# Altium footprint library Male_Header_2x3_2.55mm.PcbLib: 1 footprints
Each footprint in its own frame and in the unit in brackets; x right, y up, seen from the top. Pads: shape width x height; smd on the part's side, far side on the other; paste and mask are expansions set on the pad; w line width, h text height; cw(c..) or ccw(c..) is an arc to the next point about the centre after c.
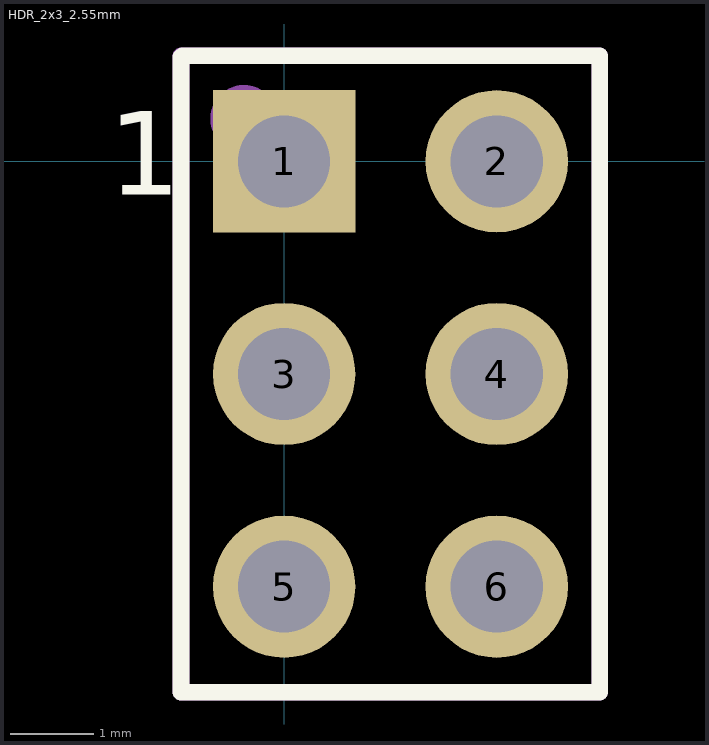
[diagram p0: the footprint, top view; thin cyan lines are the x and y axes]

## HDR_2x3_2.55mm [mm]
pads (6):
  rect 1.7x1.7 hole 1.1: 1(0,0)
  round 1.7 hole 1.1: 2(2.54,0) 3(0,-2.54) 4(2.54,-2.54) 5(0,-5.08) 6(2.54,-5.08)
Top Overlay:
  lines w0.2: 0.65,1.26 3.77,1.26 3.77,-6.34 -1.23,-6.34 -1.23,1.245 -1.215,1.26 1.92,1.26
  text "1" at -2.1,-0.4 h1
Mechanical 2:
  circle w0.6: c-0.48,0.51 r0.1
  lines w0.2: -1.23,-6.34 -1.23,1.26 3.77,1.26 3.77,-6.34 -1.23,-6.34
  text ".Designator" at 2.008,-4.636 h1.52
3D body "961206-6404-XX-header3x2.stp": height 8.01, standoff -3.29, extent -1.23,-6.35 3.77,1.27